# EAGLE library part LT8631 (library IC)
100V, 1A Synchronous Micropower Step-Down Regulator Description: The LT®8631 is a current mode PWM step-down DC/DC converter with internal synchronous switches that provide current for output loads up to 1A. The wide input range of 3V to 100V makes the LT8631 suitable for regulating powerfromawidevarietyofsources, includingautomotive and industrial systems and 36V to 72V telecom supplies. Low ripple Burst Mode operation enables high efficiency operation down to very low output currents while keeping the output ripple below 10mVP-P. Resistor programmable 100kHz to 1MHz frequency range and synchronization capabilityenableoptimizationbetweenefficiencyandexternal component size. The soft-start feature controls the ramp rate of the output voltage, eliminating input current surge during start-up, while also providing output tracking. A power good flag signals when the output voltage is within ±7.5% of the regulated output. Undervoltage lockout can be programmed using the EN/UV pin. Shutdown mode reduces the total quiescent current to < 5µA. The LT8631 is available in a 20-lead TSSOP package with exposed pad for low thermal resistance and high voltage lead spacing.
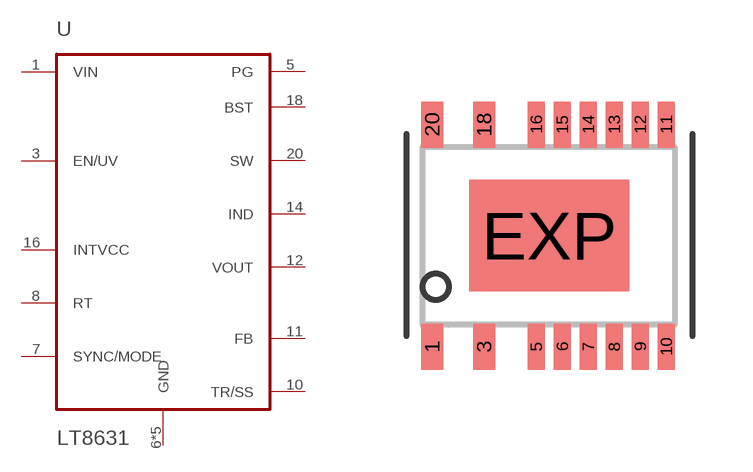
[diagram p4: symbol with the pads of TSSOP-20-FE; footprint TSSOP-20-FE]

Designator prefix U

## LT8631  [TSSOP-20-FE]
1  VIN  pwr
3  EN/UV  in
5  PG  oc
6  GND  pwr
7  SYNC/MODE  in
8  RT  pas
9  GND  pwr
10  TR/SS  pas
11  FB  in
12  VOUT  pas
13  GND  pwr
14  IND  pas
15  GND  pwr
16  INTVCC  pas
18  BST  pas
20  SW  pas
EXP  GND  pwr

## Footprint TSSOP-20-FE (pad centres in mm)
smd 0.55 x 1.15: 1 0,0; 3 1.3,0; 18 1.3,5.55; 20 0,5.55
smd 0.43 x 1.15: 5 2.6,0; 6 3.25,0; 7 3.9,0; 8 4.55,0; 9 5.2,0; 10 5.85,0; 11 5.85,5.55; 12 5.2,5.55; 13 4.55,5.55; 14 3.9,5.55; 15 3.25,5.55; 16 2.6,5.55
smd 4 x 2.78: EXP 2.929,2.775